# Altium footprint library PcbLib1.PcbLib: 7 footprints
Each footprint in its own frame and in the unit in brackets; x right, y up, seen from the top. Pads: shape width x height; smd on the part's side, far side on the other; paste and mask are expansions set on the pad; w line width, h text height; cw(c..) or ccw(c..) is an arc to the next point about the centre after c.
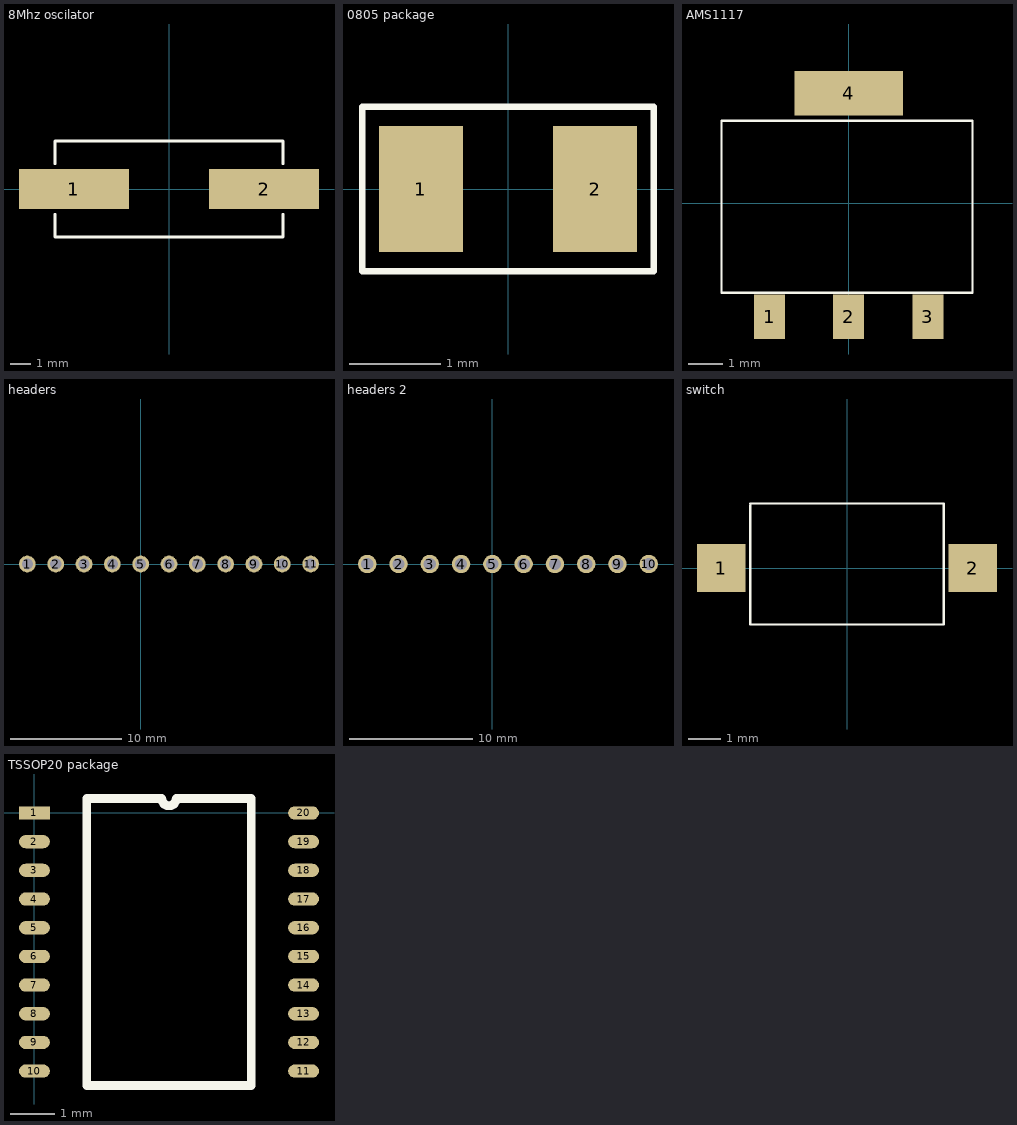
[diagram p0: the footprints below, top view; thin cyan lines are the x and y axes]

## 8Mhz oscilator [mm]
pads (2):
  rect 5.5x2 smd: 1(-4.75,0) 2(4.75,0)
Top Overlay:
  lines w0.127: -5.7,-1.254 -5.7,-2.4 5.7,-2.4 5.7,-1.254 ; -5.7,1.254 -5.7,2.4 5.7,2.4 5.7,1.254

## 0805 package [mm]
pads (2):
  rect 0.92x1.38 smd: 1(-0.955,0) 2(0.955,0)
Top Overlay:
  lines w0.07: -1.6,-0.9 -1.6,0.9 1.6,0.9 1.6,-0.9 -1.6,-0.9
3D body "CircuitWorks-RESISTOR 0805.step": height 0.43, standoff -0.03, extent -1,-0.63 1,0.63

## AMS1117 [mm]
pads (4):
  rect 0.9x1.3 smd: 1(-2.3,-3.3) 2(0,-3.3) 3(2.3,-3.3)
  rect 3.15x1.3 smd: 4(0,3.2)
Top Overlay:
  lines w0.07: -3.7,-2.6 3.6,-2.6 3.6,2.4 -3.7,2.4 -3.7,-2.6

## headers [mm]
pads (11):
  round 1.5 hole 1: 1(-10.16,0) 2(-7.62,0) 3(-5.08,0) 4(-2.54,0) 5(0,0) 6(2.54,0) 7(5.08,0) 8(7.62,0) 9(10.16,0) 10(12.7,0) 11(15.24,0)

## headers 2 [mm]
pads (10):
  round 1.5 hole 1: 1(-10.16,0) 2(-7.62,0) 3(-5.08,0) 4(-2.54,0) 5(0,0) 6(2.54,0) 7(5.08,0) 8(7.62,0) 9(10.16,0) 10(12.7,0)

## switch [mm]
pads (2):
  rect 1.5x1.5 smd: 1(-3.9,0) 2(3.9,0)
Top Overlay:
  lines w0.07: -3,1.95 -3,-1.75 3,-1.75 3,2 -3,2

## TSSOP20 package [mm]
pads (20):
  rect 0.7x0.3 smd: 1(0,0)
  oval 0.7x0.3 smd: 2(0,-0.65) 3(0,-1.3) 4(0,-1.95) 5(0,-2.6) 6(0,-3.25) 7(0,-3.9) 8(0,-4.55) 9(0,-5.2) 10(0,-5.85) 11(6.1,-5.85) 12(6.1,-5.2) 13(6.1,-4.55) 14(6.1,-3.9) 15(6.1,-3.25) 16(6.1,-2.6) 17(6.1,-1.95) 18(6.1,-1.3) 19(6.1,-0.65) 20(6.1,0)
Top Overlay:
  lines w0.2: 1.185,-6.175 1.185,0.325 2.887,0.325 ccw(c3.05,0.325) 3.212,0.325 4.915,0.325 4.915,-6.175 1.185,-6.175
3D body "TSSOP20.STEP": height 1.1, standoff 0, extent -0.2,-6.35 6.2,0.55